# Altium footprint library TSW-108-07-G-D.PcbLib: 1 footprints
Each footprint in its own frame and in the unit in brackets; x right, y up, seen from the top. Pads: shape width x height; smd on the part's side, far side on the other; paste and mask are expansions set on the pad; w line width, h text height; cw(c..) or ccw(c..) is an arc to the next point about the centre after c.
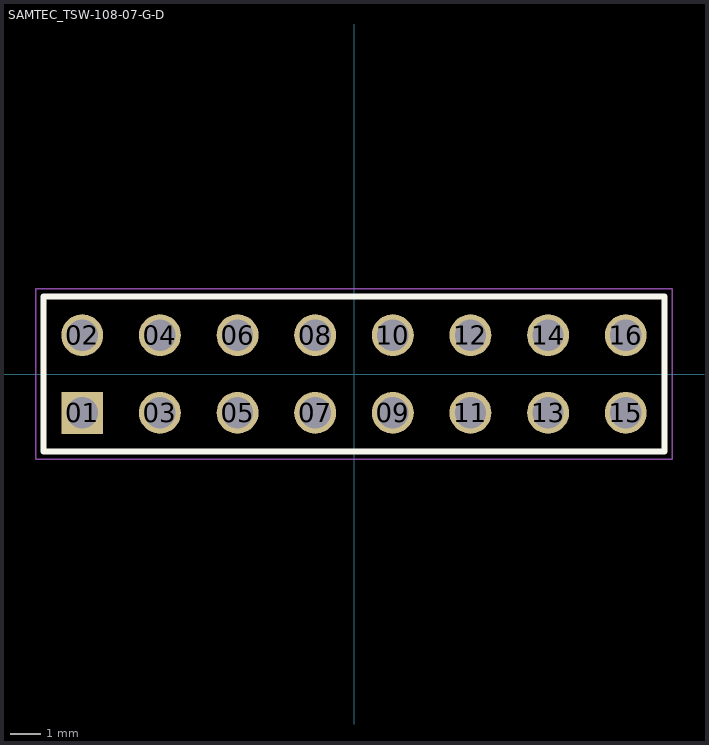
[diagram p0: the footprint, top view; thin cyan lines are the x and y axes]

## SAMTEC_TSW-108-07-G-D [mm]
pads (16):
  rect 1.37x1.37 / inner round 1.37 / far side rect 1.37x1.37 hole 1.02: 01(-8.89,-1.27)
  round 1.37 hole 1.02: 02(-8.89,1.27) 03(-6.35,-1.27) 04(-6.35,1.27) 05(-3.81,-1.27) 06(-3.81,1.27) 07(-1.27,-1.27) 08(-1.27,1.27) 09(1.27,-1.27) 10(1.27,1.27) 11(3.81,-1.27) 12(3.81,1.27) 13(6.35,-1.27) 14(6.35,1.27) 15(8.89,-1.27) 16(8.89,1.27)
Top Overlay:
  lines w0.2: -10.16,-2.54 -10.16,2.54 10.16,2.54 10.16,-2.54 -10.16,-2.54
Mechanical 13:
  lines w0.1: -10.16,-2.54 -10.16,2.54 ; -10.16,-2.54 10.16,-2.54 ; -10.16,-2.54 -10.16,2.54 ; -10.16,2.54 10.16,2.54 ; -10.16,2.54 10.16,2.54 ; 10.16,-2.54 10.16,2.54 ; 10.16,-2.54 10.16,2.54
Mechanical 15:
  lines w0.05: -10.41,-2.79 -10.41,2.79 10.41,2.79 10.41,-2.79 -10.41,-2.79
3D body "TSW-108-07-G-D--3DModel.STEP": height 8.38, standoff -2.54, extent -10.236,-2.591 10.084,2.489